# EAGLE library part HEADER-1X8-B2B-MALE (library old-4ms-main-parts)
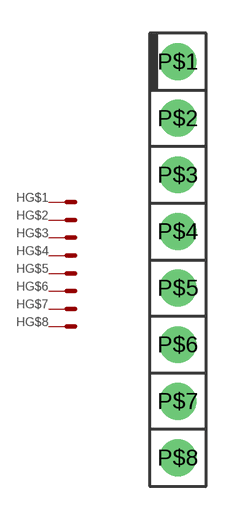
[diagram p5: symbol with the pads of HEADER-1X8-TH; footprint HEADER-1X8-TH]

Designator prefix H; gates G$1=HEADER-PIN-M G$2=HEADER-PIN-M G$3=HEADER-PIN-M G$4=HEADER-PIN-M G$5=HEADER-PIN-M G$6=HEADER-PIN-M G$7=HEADER-PIN-M G$8=HEADER-PIN-M

## HEADER-1X8-B2B-MALEA  [HEADER-1X8-TH]
P$1  G$1:S  pas
P$2  G$2:S  pas
P$3  G$3:S  pas
P$4  G$4:S  pas
P$5  G$5:S  pas
P$6  G$6:S  pas
P$7  G$7:S  pas
P$8  G$8:S  pas

## Footprint HEADER-1X8-TH (pad centres in mm)
drill 0.9 pad 1.651: P$1 0,6.35; P$2 0,3.81; P$3 0,1.27; P$4 0,-1.27; P$5 0,-3.81; P$6 0,-6.35; P$7 0,-8.89; P$8 0,-11.43